# Altium schematic symbol library MFL Battery Pad.Schlib: 1 symbol
Pins are listed as number, name and electrical type; pins without a type are passive.

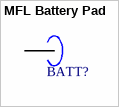
[diagram p0: symbol MFL Battery Pad]

## MFL Battery Pad
designator BATT?, comment BATT?  (value not drawn)  (no BOM)
MFL Battery Pad
pins: 1 TP
1 alternate drawing of the same symbol